# Altium footprint library RFD900x.PcbLib: 2 footprints
Each footprint in its own frame and in the unit in brackets; x right, y up, seen from the top. Pads: shape width x height; smd on the part's side, far side on the other; paste and mask are expansions set on the pad; w line width, h text height; cw(c..) or ccw(c..) is an arc to the next point about the centre after c.
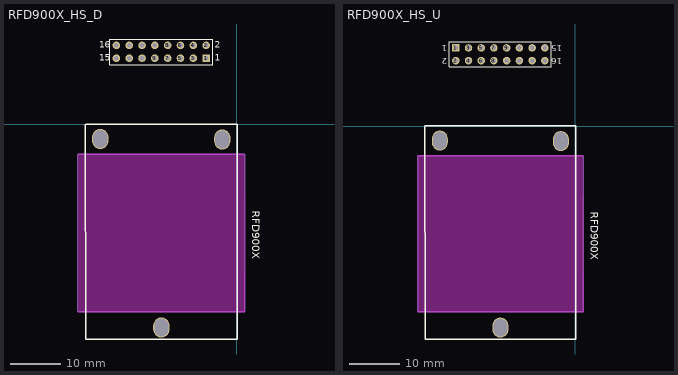
[diagram p0: the footprints below, top view; thin cyan lines are the x and y axes]

## RFD900X_HS_D [mm] "Heatsink Down"
pads (19):
  rect 1.5x1.5 hole 0.9: 1(-6.097,13.1)
  round 1.5 hole 0.9: 2(-6.097,15.64) 3(-8.637,13.1) 4(-8.637,15.64) 5(-11.177,13.1) 6(-11.177,15.64) 7(-13.717,13.1) 8(-13.717,15.64) 9(-16.257,13.1) 10(-16.257,15.64) 11(-18.797,13.1) 12(-18.797,15.64) 13(-21.337,13.1) 14(-21.337,15.64) 15(-23.877,13.1) 16(-23.877,15.64)
  oval 3.2x4 hole 3.5 slot 2.7 at 0 deg: ""(-27.072,-2.9) ""(-14.972,-40.245) ""(-2.9,-2.99)
Top Overlay:
  lines w0.2: -25.147,16.891 -4.827,16.891 ; -25.147,16.91 -25.147,11.83 -4.827,11.83 -4.827,16.91
  lines w0.254: -30.033,0.025 -29.987,-42.52 0.035,-42.52 0.035,0.025 -29.986,0.025
  text "16" at -27.305,15.132 h1.27
  text "15" at -27.305,12.592 h1.27
  text "2" at -4.403,15.132 h1.27
  text "1" at -4.403,12.592 h1.27
  text "RFD900X" at 3.069,-17.087 h1.52
Keep-Out Layer:
  board cut-out: 1.387,-5.842 -31.368,-5.842 -31.369,-37.211 1.529,-37.211
Mechanical 1:
  lines w0.254: -31.496,-37.084 -23.225,-37.084 -6.683,-37.084 1.588,-37.084 1.588,-5.969 -6.81,-5.969 -23.352,-5.969 -31.496,-5.969 -31.496,-37.084
3D body: height 7.5, standoff 0, extent -29.972,-53.34 -22.352,-42.164
3D body: height 0.25, standoff 0, extent -21.971,-41.275 -21.971,-41.275
3D body: height 7.5, standoff 0, extent -7.62,-53.34 0,-42.164
3D body: height 5.5, standoff 0, extent -29.991,-36.322 0.153,-8

## RFD900X_HS_U [mm] "Heatsink Up"
pads (19):
  rect 1.5x1.5 hole 0.9: 1(-23.875,15.602)
  round 1.5 hole 0.9: 2(-23.875,13.062) 3(-21.335,15.602) 4(-21.335,13.062) 5(-18.795,15.602) 6(-18.795,13.062) 7(-16.255,15.602) 8(-16.255,13.062) 9(-13.715,15.602) 10(-13.715,13.062) 11(-11.175,15.602) 12(-11.175,13.062) 13(-8.635,15.602) 14(-8.635,13.062) 15(-6.095,15.602) 16(-6.095,13.062)
  oval 3.2x4 hole 3.5 slot 2.7 at 0 deg: ""(-27.072,-2.9) ""(-14.972,-40.245) ""(-2.9,-2.99)
Top Overlay:
  lines w0.2: -25.145,11.792 -25.145,16.872 -4.825,16.872 -4.825,11.792 ; -25.145,11.811 -4.825,11.811
  lines w0.254: -30.033,0.025 -29.987,-42.52 0.035,-42.52 0.035,0.025 -29.986,0.025
  text "16" at -2.667,13.57 h1.27
  text "15" at -2.667,16.11 h1.27
  text "2" at -25.569,13.57 h1.27
  text "1" at -25.569,16.11 h1.27
  text "RFD900X" at 3.069,-17.087 h1.52
Keep-Out Layer:
  board cut-out: 1.387,-5.842 -31.368,-5.842 -31.369,-37.211 1.529,-37.211
Mechanical 1:
  lines w0.254: -31.496,-37.084 -23.225,-37.084 -6.683,-37.084 1.588,-37.084 1.588,-5.969 -6.81,-5.969 -23.352,-5.969 -31.496,-5.969 -31.496,-37.084
3D body: height 7.5, standoff 0, extent -29.972,-53.34 -22.352,-42.164
3D body: height 0.25, standoff 0, extent -21.971,-41.275 -21.971,-41.275
3D body: height 7.5, standoff 0, extent -7.62,-53.34 0,-42.164
3D body: height 5.5, standoff 0, extent -29.991,-36.322 0.153,-8